# Altium integrated library CP2102.IntLib: 1 symbol
Pins are listed as number, name and electrical type; pins without a type are passive.

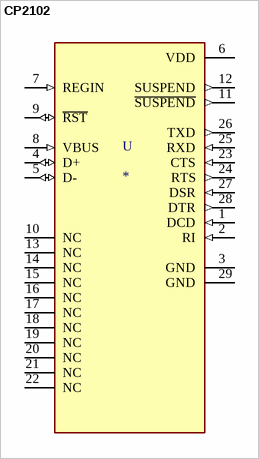
[diagram p0: symbol CP2102]

## CP2102
designator U
USB Bridge, USB to UART USB 2.0 UART Interface 28-QFN _5x5_; MP: CP2102; MF: Silicon Labs; Value: *; Availability: Unavailable; Package: WFQFN-20 Silicon Labs; SnapEDA_Link: https://www.snapeda.com/parts/CP2102/Silicon%20Labs/view-part/228557/?ref=snap; Price: None
footprint QFN50P500X500X100-29N
pins: 1 DCD (in), 2 RI (in), 3 GND (power), 4 D+ (io), 5 D- (io), 6 VDD (power), 7 REGIN (in), 8 VBUS (in), 9 ~{RST} (io), 10 NC, 11 ~{SUSPEND} (out), 12 SUSPEND (out), 13 NC, 14 NC, 15 NC, 16 NC, 17 NC, 18 NC, 19 NC, 20 NC, 21 NC, 22 NC, 23 CTS (in), 24 RTS (out), 25 RXD (in), 26 TXD (out), 27 DSR (in), 28 DTR (out), 29 GND (power)